# Altium schematic symbol library SINA.SchLib: 98 symbols
Pins are listed as number, name and electrical type; pins without a type are passive.

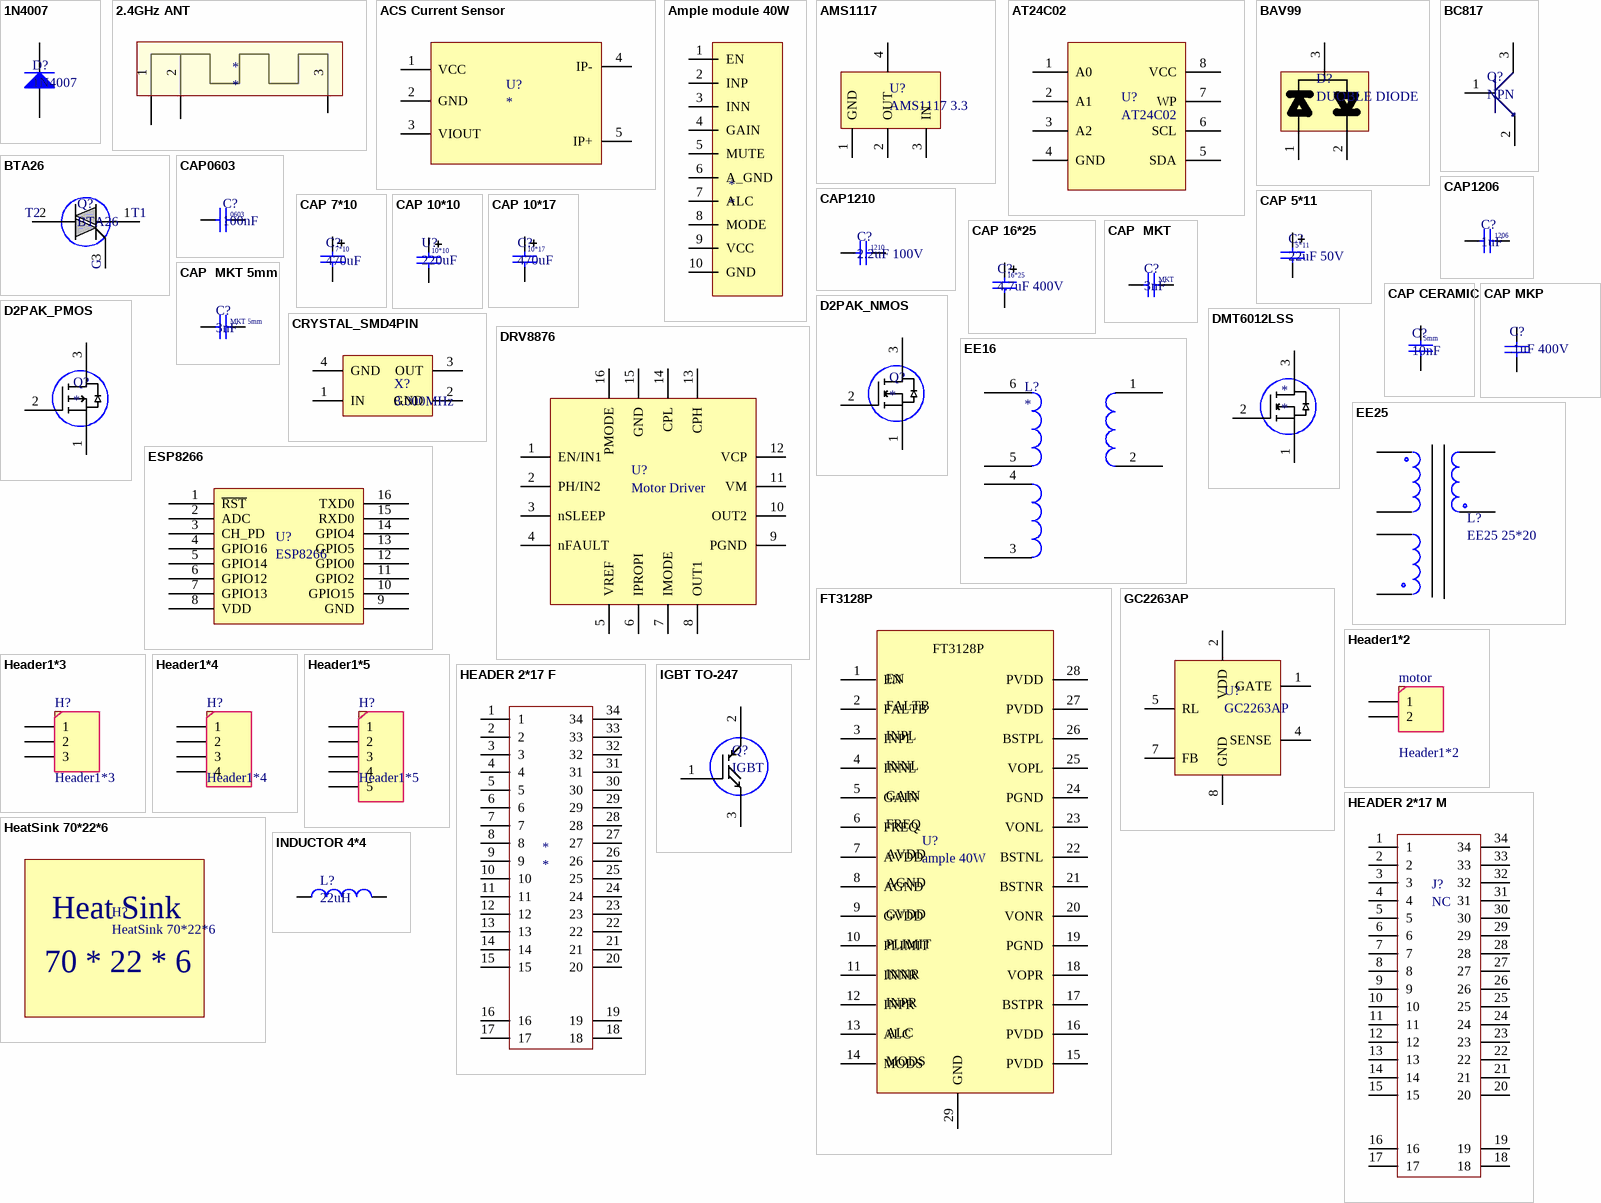
[diagram p0: symbols 1N4007 to INDUCTOR 4*4]

## 1N4007
designator D?
footprint 1N4007
pins: 1 K, 2 A

## 2.4GHz ANT
designator *
footprint 2.4GHz ANT
pins: 1 25, 2 25, 3 25

## ACS Current Sensor
designator U?
footprint ACS Current Sensor
pins: 1 VCC, 2 GND, 3 VIOUT, 4 IP-, 5 IP+

## Ample module 40W
designator *
footprint Ample module 40W
pins: 1 EN, 2 INP, 3 INN, 4 GAIN, 5 MUTE, 6 A_GND, 7 ALC, 8 MODE, 9 VCC, 10 GND

## AMS1117
designator U?, comment AMS1117 3.3
footprint AMS1117
pins: 1 GND, 2 OUT, 3 IN, 4 65

## AT24C02
designator U?
footprint AT24C02
pins: 1 A0, 2 A1, 3 A2, 4 GND, 5 SDA, 6 SCL, 7 WP, 8 VCC

## BAV99
designator D?, comment DUOBLE DIODE
footprint Model Name (Footprint not found)
footprint BAV99
pins: 1 42, 2 42, 3 42

## BC817
designator Q?, comment NPN
footprint BC817
pins: 1 B, 2 E, 3 C

## BTA26
designator Q?
footprint BTA26
pins: 1 44, 2 46, 3 45
text: T2; T1; G

## CAP0603
designator C?, comment 100nF
footprint CAP0603
pins: 1, 2
text: 0603

## CAP1206
designator C?, comment 1uF
footprint CAP1206
pins: 1, 2
text: 1206

## CAP1210
designator C?, comment 2.2uF 100V
footprint CAP 1210
pins: 1, 2
text: 1210

## CAP 5*11
designator C?, comment 22uF 50V
footprint CAP 5*11
pins: 1 2, 2 1
text: 5*11

## CAP 7*10
designator C?, comment 470uF
footprint CAP 7*10
pins: 1, 2
text: 7*10

## CAP 10*10
designator U?, comment 220uF
footprint CAP 10*10
pins: 1, 2
text: 10*10

## CAP 10*17
designator C?, comment 470uF
footprint CAP 10*17
pins: 1, 2
text: 10*17

## CAP 16*25
designator C?, comment 4.7uF 400V
footprint CAP 16*25
pins: 1 2, 2 1
text: 16*25

## CAP  MKT
designator C?, comment 3nF
footprint CAP MKT
pins: 1, 2
text: MKT

## CAP  MKT 5mm
designator C?, comment 3nF
footprint CAP MKT 5mm
pins: 1, 2
text: MKT 5mm

## CAP CERAMIC
designator C?, comment 10nF
footprint CAP CERAMIC
pins: 1, 2
text: 5mm

## CAP MKP
designator C?, comment .1uF 400V
footprint CAP MKP
pins: 1, 2

## CRYSTAL_SMD4PIN
designator X?, comment 8.000MHz
footprint CRYSTAL_SMD4PIN
pins: 1 IN, 2 GND, 3 OUT, 4 GND

## D2PAK_NMOS
designator Q?
footprint D2PAK_NMOS
pins: 1 63, 2 62, 3 D

## D2PAK_PMOS
designator Q?
footprint D2PAK_PMOS
pins: 1 63, 2 62, 3 D

## DMT6012LSS
designator *
footprint DMT6012LSS
pins: 1 63, 2 62, 3 D

## DRV8876
designator U?, comment Motor Driver
footprint Drv8876
pins: 1 EN/IN1, 2 PH/IN2, 3 nSLEEP, 4 nFAULT, 5 VREF, 6 IPROPI, 7 IMODE, 8 OUT1, 9 PGND, 10 OUT2, 11 VM, 12 VCP, 13 CPH, 14 CPL, 15 GND, 16 PMODE

## EE16
designator L?
footprint EE16
pins: 1 58, 2 58, 3 58, 4 58, 5 58, 6

## EE25
designator L?, comment EE25 25*20
footprint EE25
pins: 1, 2 1, 3 1, 4 1, 5 1, 6 1

## ESP8266
designator U?
footprint ESP8266
pins: 1 ~{RST} "Reset", 2 ADC "ADC Input Or TOUT Output", 3 CH_PD "Chip enable", 4 GPIO16 "GPIO16 or Deep-Sleep Wakeup", 5 GPIO14 "GPIO14 or SPI CLK", 6 GPIO12 "GPIO12 or SPIQ", 7 GPIO13 "GPIO13 or SPID", 8 VDD "Power supply", 9 GND "Power ground", 10 GPIO15 "GPIO15 or SPICS", 11 GPIO2, 12 GPIO0, 13 GPIO5, 14 GPIO4, 15 RXD0 "GPIO3 or UART RXD", 16 TXD0

## FT3128P
designator U?, comment ample 40W
footprint FT3128P
pins: 1 EN, 2 FALTB, 3 INPL, 4 INNL, 5 GAIN, 6 FREQ, 7 AVDD, 8 AGND, 9 GVDD, 10 PLIMIT, 11 INNR, 12 INPR, 13 ALC, 14 MODS, 15 PVDD, 16 PVDD, 17 BSTPR, 18 VOPR, 19 PGND, 20 VONR, 21 BSTNR, 22 BSTNL, 23 VONL, 24 PGND, 25 VOPL, 26 BSTPL, 27 PVDD, 28 PVDD, 29 GND

## GC2263AP
designator U?
footprint GC2263AP
pins: 1 GATE, 2 VDD, 4 SENSE, 5 RL, 7 FB, 8 GND

## Header1*2
designator motor
Header, 2-Pin
footprint HEADER1*2 (2.50mm Male Shrouded Header, 2p)
pins: 1, 2

## Header1*3
designator H?
Header, 3-Pin; LatestRevisionDate: 17-Jul-2002; LatestRevisionNote: Re-released for DXP Platform.; Publisher: Altium Limited
footprint HEADER1*3 (2.50mm Male Shrouded Header, 3p)
footprint HEADER1*3 (2.50mm Male Shrouded Header, 3p)
pins: 1, 2, 3

## Header1*4
designator H?
Header, 4-Pin
footprint HEADER1*4 (2.50mm Male Shrouded Header, 4p)
pins: 1, 2, 3, 4

## Header1*5
designator H?
Header, 5-Pin; LatestRevisionDate: 17-Jul-2002; LatestRevisionNote: Re-released for DXP Platform.; Publisher: Altium Limited
footprint HEADER1*5 (2.50mm Male Shrouded Header, 5p)
pins: 1, 2, 3, 4, 5

## HEADER 2*17 F
designator *
footprint HEADER 2*17 F
pins: 1, 2, 3, 4, 5, 6, 7, 8, 9, 10, 11, 12, 13, 14, 15, 16, 17, 18, 19, 20, 21, 22, 23, 24, 25, 26, 27, 28, 29, 30, 31, 32, 33, 34

## HEADER 2*17 M
designator J?, comment NC
footprint HEADER 2*17 M
pins: 1, 2, 3, 4, 5, 6, 7, 8, 9, 10, 11, 12, 13, 14, 15, 16, 17, 18, 19, 20, 21, 22, 23, 24, 25, 26, 27, 28, 29, 30, 31, 32, 33, 34

## HeatSink 70*22*6
designator H?
footprint HeatSink 70*22*6
text: Heat Sink; 70 * 22 * 6

## IGBT TO-247
designator Q?, comment IGBT
footprint IGBT TO-247
pins: 1 15, 2 17, 3 16

## INDUCTOR 4*4
designator L?, comment 22uH
footprint INDUCTOR 4*4
pins: 1, 2

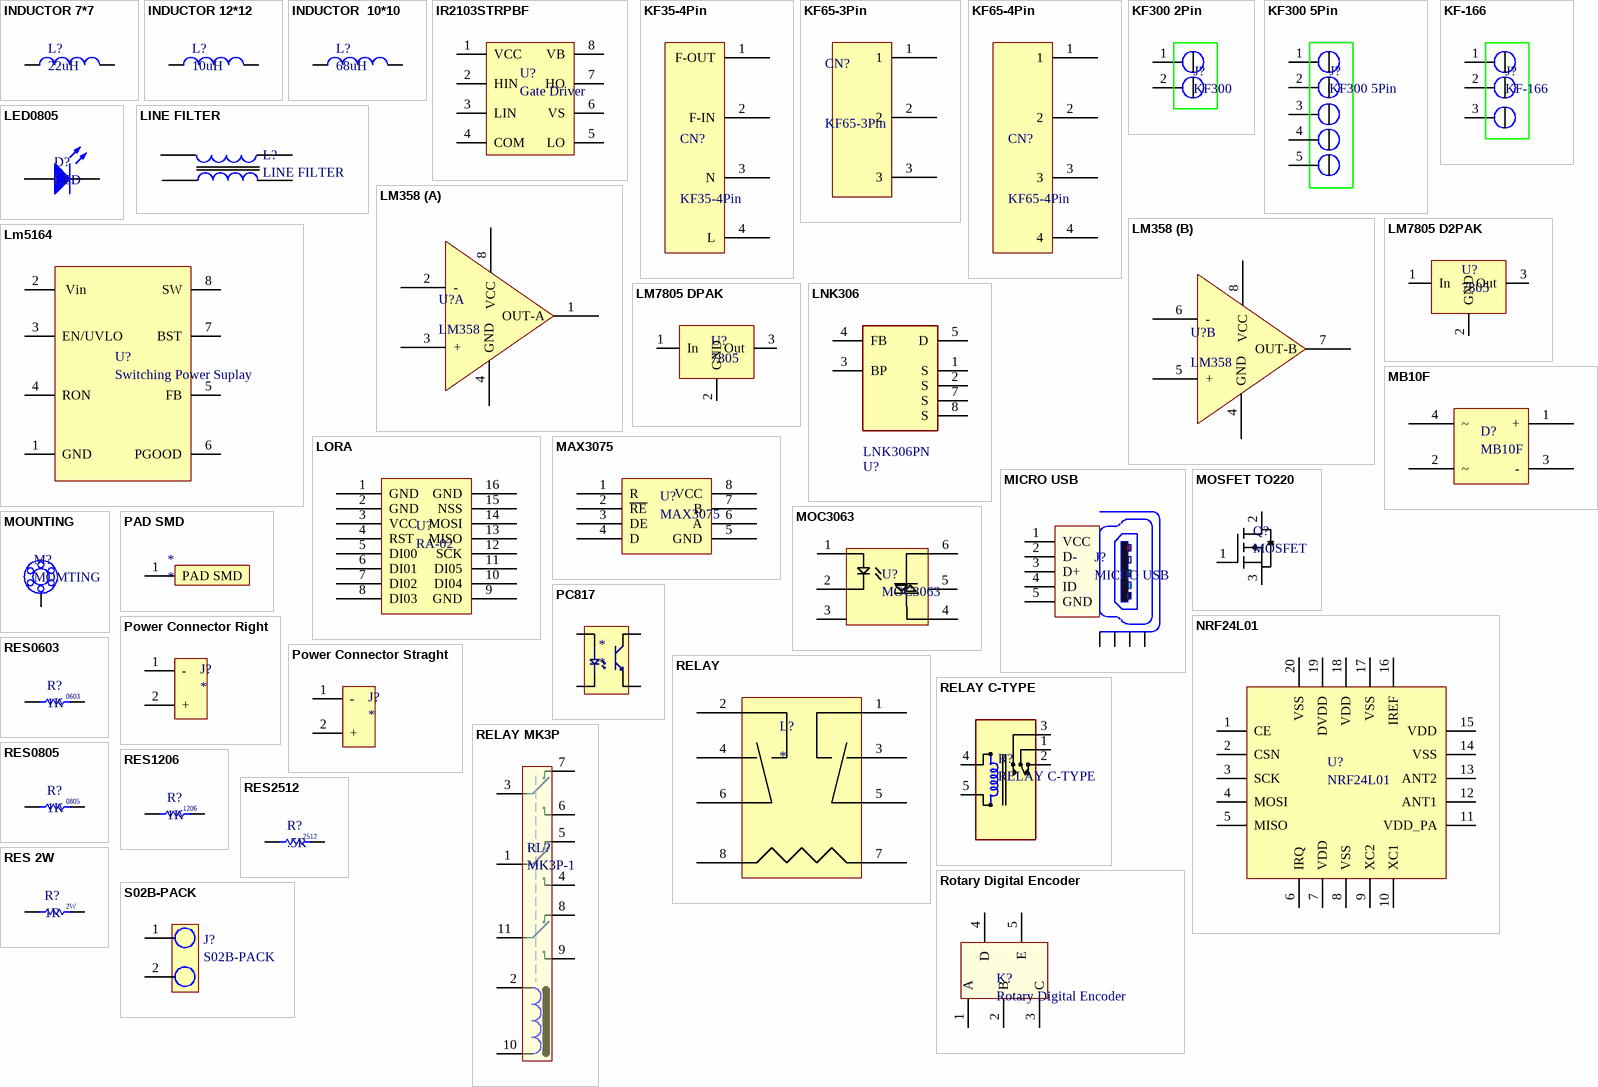
[diagram p1: symbols INDUCTOR 7*7 to S02B-PACK]

## INDUCTOR 7*7
designator L?, comment 22uH
footprint INDUCTOR 7*7
pins: 1, 2

## INDUCTOR 12*12
designator L?, comment 10uH
footprint INDUCTOR 12*12 (Precision Wire Wound Inductor, 2-Leads, Body 12.45x12.45mm, IPC Medium Density)
pins: 1, 2

## INDUCTOR  10*10
designator L?, comment 68uH
footprint INDUCTOR  10*10
pins: 1, 2

## IR2103STRPBF
designator U?, comment Gate Driver
footprint IR103STRBF
pins: 1 VCC, 2 HIN, 3 LIN, 4 COM, 5 LO, 6 VS, 7 HO, 8 VB

## KF35-4Pin
designator CN?
footprint KF35-4Pin
pins: 1 F-OUT, 2 F-IN, 3 N, 4 L

## KF65-3Pin
designator CN?
footprint KF65-3Pin
pins: 1, 2, 3

## KF65-4Pin
designator CN?
footprint KF65-4Pin
pins: 1, 2, 3, 4

## KF300 2Pin
designator J?, comment KF300
footprint KF300 2Pin
pins: 1 70, 2 71

## KF300 5Pin
designator J?
footprint KF300  5Pin
pins: 1 70, 2 71, 3 72, 4 70, 5 71

## KF-166
designator J?
footprint KF-166
pins: 1 70, 2 71, 3 72

## LED0805
designator D?, comment LED
footprint LED0805
pins: 1 A, 2 K

## LINE FILTER
designator L?
footprint LINE FILTER
pins: 1, 2 1, 3 1, 4 1

## LM358
designator U?
Single Supply Dual Operational Amplifier
footprint LM358 (SOIC, 8-Leads, Body 4.90x3.90mm, Pitch 1.27mm, IPC Medium Density)
part A pins: 1 OUT-A, 2 -, 3 +, 4 GND, 8 VCC
part B pins: 4 GND, 5 +, 6 -, 7 OUT-B, 8 VCC

## Lm5164
designator U?, comment Switching Power Suplay
footprint Lm5164
pins: 1 GND, 2  Vin, 3 EN/UVLO, 4 RON, 5 FB, 6 PGOOD, 7 BST, 8 SW

## LM7805 D2PAK
designator U?, comment 7805
footprint LM7805 D2PACK
pins: 1 In, 2 GND, 3 Out

## LM7805 DPAK
designator U?, comment 7805
footprint LM7805 DPAK
pins: 1 In, 2 GND, 3 Out

## LNK306
designator U?  Part Number: LNK306PN
IC Converter Offline Buck, Buck-Boost, Flyback Topology 66kHz DIP-8B; Manufacturer: Power Integrations; Mfg Package Ident: PI-2551-121504; helpURL: https://upverter.com/upn/revision/5da44e7bd2166d1f/; ComponentLink2Description: Datasheet; Temperature: -40°C to +150°C; Package: PI-2551-121504; Supplier 2: Mouser; Price: 0.983153531093; Supplier 1: Digi-Key; ComponentLink1URL: https://upverter.com/upn/revision/5da44e7bd2166d1f/; Supplier Part Number 2: 869-LNK306PN; Supplier Part Number 1: 596-1027-5-ND; ComponentLink1Description: Upverter; ComponentLink2URL: https://upverter.com/datasheet/bdfa534c6bc66fd3272e8d953f8f77c483cb431e.pdf; RoHS: TRUE; Mouser Part Number: 869-LNK306PN; Ipc Land Pattern Name: DIP762W46P254L957H406Q8; Temperature Range High: +150°C; Digikey Description: IC Converter Offline Buck, Buck-Boost, Flyback Topology 66kHz DIP-8B; Digikey Part Number: 596-1027-5-ND; Lead Free: yes; Temperature Range Low: -40°C; Frequency: 66kHz
footprint Power_Integrations_PI-2551-121504_0
pins: 1 S, 2 S, 3 BP, 4 FB, 5 D, 7 S, 8 S

## LORA
designator U?, comment RA-02
footprint LORA
pins: 1 GND (power), 2 GND (power), 3 VCC (power), 4 RST, 5 DI00, 6 DI01, 7 DI02, 8 DI03, 9 GND (power), 10 DI04, 11 DI05, 12 SCK, 13 MISO, 14 MOSI, 15 NSS, 16 GND (power)

## MAX3075
designator U?
footprint MAX3075
pins: 1 R, 2 ~{RE}, 3 DE, 4 D, 5 GND (power), 6 A, 7 B, 8 VCC (power)

## MB10F
designator D?
DIODES INCORPORATED
footprint MB10F
pins: 1 +, 2 ~, 3 -, 4 ~

## MICRO USB
designator J?
footprint MICRO USB
pins: 1 VCC, 2 D-, 3 D+, 4 ID, 5 GND, Z1 Shield, Z2 Shield, Z3 Shield, Z4 Shield

## MOC3063
designator U?
footprint MOC3063
pins: 1 47, 2 48, 3 47, 4 50, 5 48, 6 49

## MOSFET TO220
designator Q?, comment MOSFET
footprint MOSFET TO220
pins: 1 G, 2 D, 3 S

## MOUNTING
designator M?, comment MOMTING
footprint MOUNTING
pins: 1, 2, 3, 4, 5, 6, 7

## NRF24L01
designator U?
footprint NRF24L01
pins: 1 CE, 2 CSN, 3 SCK, 4 MOSI, 5 MISO, 6 IRQ, 7 VDD, 8 VSS, 9 XC2, 10 XC1, 11 VDD_PA, 12 ANT1, 13 ANT2, 14 VSS, 15 VDD, 16 IREF, 17 VSS, 18 VDD, 19 DVDD, 20 VSS

## PAD SMD
designator *
footprint PAD SMD
pins: 1 PAD SMD

## PC817
designator *
footprint PC817
pins: 1, 2, 3, 4

## Power Connector Right
designator J?
footprint Power Connector Right
pins: 1 -, 2 +

## Power Connector Straght
designator J?
footprint Power Connector Straght
pins: 1 -, 2 +

## RELAY
designator L?
footprint relay
pins: 1 24, 2 19, 3 25, 4 20, 5 26, 6 21, 7 23, 8 22

## RELAY C-TYPE
designator R?
footprint RELAY C-TYPE
pins: 1 COM, 2 NC, 3 NO, 4 T1, 5 T2

## RELAY MK3P
designator RL?, comment MK3P-1
footprint RELAY MK3P
pins: 1 7, 2 7, 3, 4 9, 5 8, 6 9, 7 8, 8, 9, 10 7, 11 7

## RES0603
designator R?, comment 1K
footprint RES0603
pins: 1, 2
text: 0603

## RES0805
designator R?, comment 1K
footprint RES0805
pins: 1, 2
text: 0805

## RES1206
designator R?, comment 1K
footprint RES1206
pins: 1, 2
text: 1206

## RES2512
designator R?, comment .5R
footprint RES2512
pins: 1, 2
text: 2512

## RES 2W
designator R?, comment 1R
footprint RES 2W
pins: 1, 2
text: 2W

## Rotary Digital Encoder
designator K?
footprint Rotary Digital Encoder
pins: 1 A, 2 B, 3 C, 4 D, 5 E

## S02B-PACK
designator J?
footprint S02B-PACK
pins: 1 68, 2 69

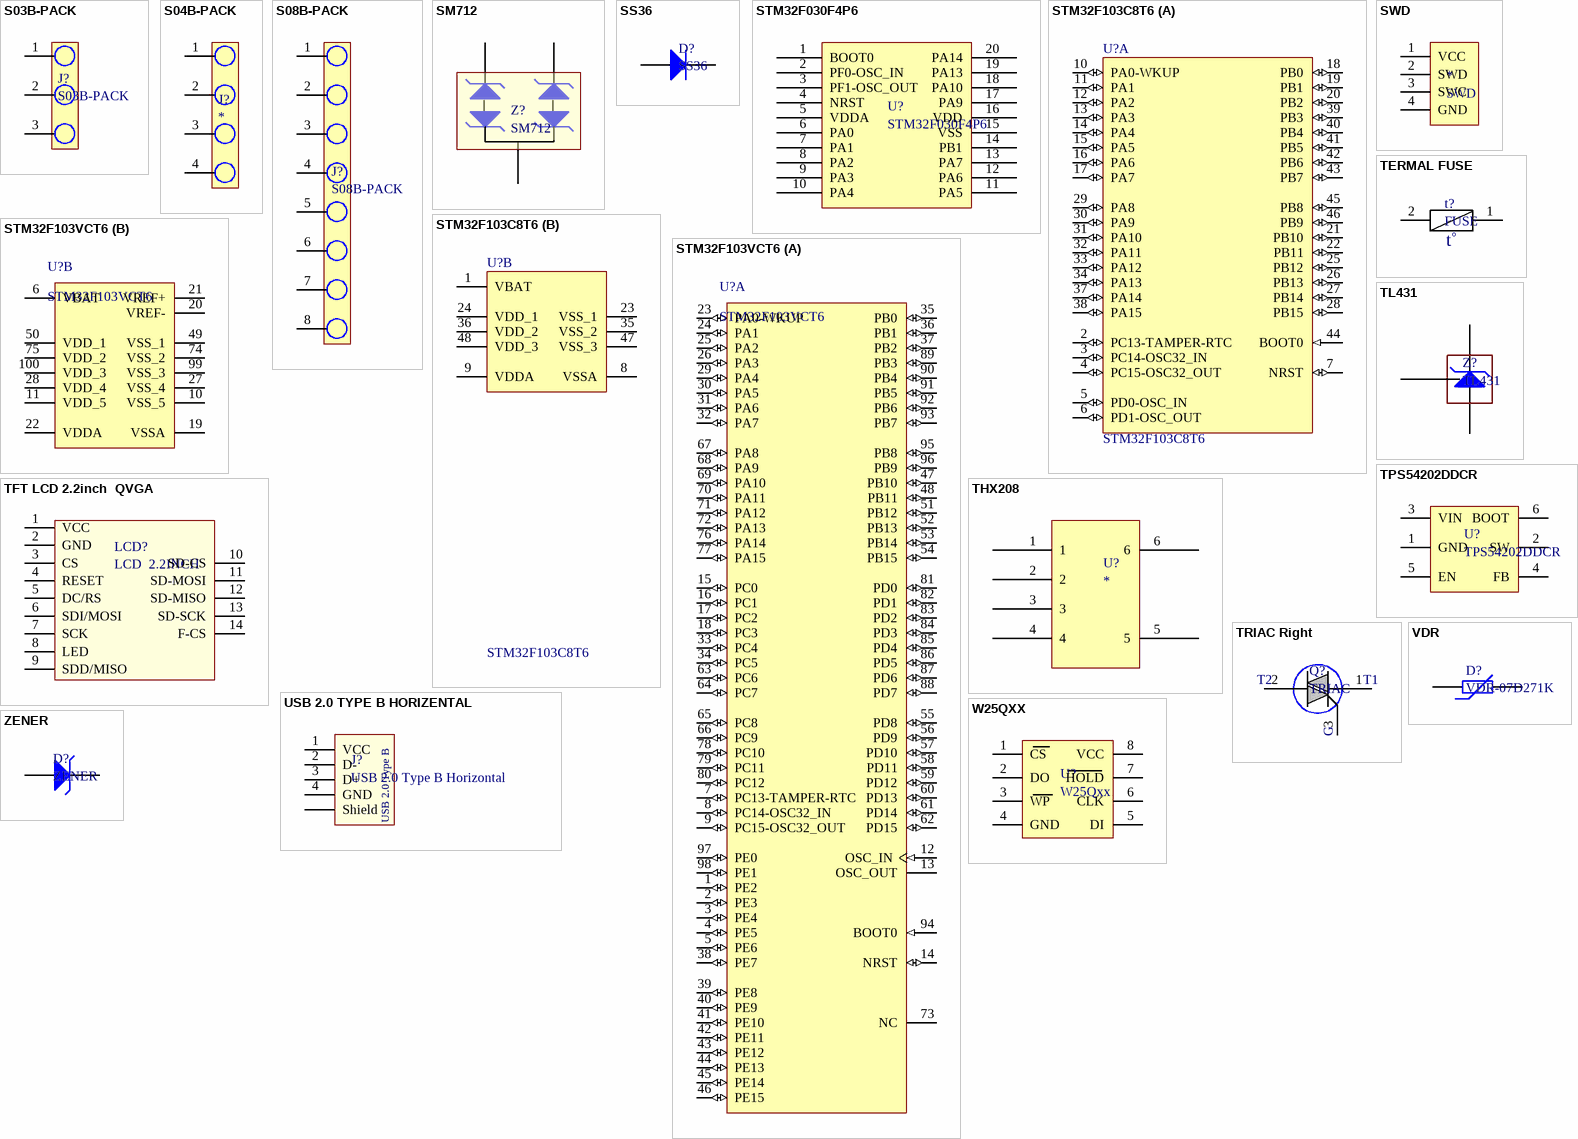
[diagram p2: symbols S03B-PACK to ZENER]

## S03B-PACK
designator J?
footprint S03B-PACK
pins: 1 68, 2 69, 3 69

## S04B-PACK
designator J?
footprint S04B-PACK
pins: 1 68, 2 69, 3 69, 4 69

## S08B-PACK
designator J?
footprint S08B-PACK
pins: 1 68, 2 69, 3 69, 4 69, 5 69, 6 69, 7 69, 8 69

## SM712
designator Z?
footprint BC817
pins: 1 K, 2 K, 3 K

## SS36
designator D?
footprint SS36
pins: 1 A, 2 K

## STM32F030F4P6
designator U?
footprint STM32F030F4P6
pins: 1 BOOT0, 2 PF0-OSC_IN, 3 PF1-OSC_OUT, 4 NRST, 5 VDDA, 6 PA0, 7 PA1, 8 PA2, 9 PA3, 10 PA4, 11 PA5, 12 PA6, 13 PA7, 14 PB1, 15 VSS, 16 VDD, 17 PA9, 18 PA10, 19 PA13, 20 PA14

## STM32F103C8T6
designator U?
ARM Cortex-M3 32-bit MCU, 64 KB Flash, 20 KB Internal RAM, 37 I/Os, 48-pin LQFP, -40 to 85 degC, Tray; A/D Converter: 2x12-bit (10 Channel); FLASH Size (Prog) (kB): 64; I/Os (High Current): 37; Internal RAM Size (kB): 20; Operating Frequency(F) (Processor speed) (MHz): 72; Supply Voltage(Vcc) min (V): 2; DatasheetVersion: Rev. 16; PackageVersion: Rev. 6, 06/2013; PackageReference: LQFP48; PackageDescription: 48-Pin Low Profile Quad Flat Package, 7 x 7 mm Body, 0.5 mm Pitch; Supplier 1: Digi-Key; Supplier Part Number 1: 497-6063-ND; Supplier 2: Farnell; Supplier Part Number 2: 1447637; Supplier 3: Newark; Supplier Part Number 3: 59M2182; Supplier 4: Newark; Supplier Part Number 4: 57P1222; Supplier 5: Mouser; Supplier Part Number 5: 511-STM32F103C8T6; Core: ARM Cortex-M3; Packing: Tray; Mounting Technology: Surface Mount; PartNumber: STM32F103C8T6; ComponentLink1Description: Manufacturer URL; ComponentLink1URL: http://www.st.com/web/en/home.html; ComponentLink2Description: Datasheet; ComponentLink2URL: http://www.st.com/st-web-ui/static/active/en/resource/technical/document/datasheet/CD00161566.pdf; ComponentLink3Description: Package Specification; ComponentLink3URL: http://www.st.com/st-web-ui/static/active/en/resource/technical/document/datasheet/DM00058181.pdf
footprint STM32F103C8T6 (Thin QFP, 48-Leads, Body 7x7mm, Pitch 0.5mm, IPC Low Density)
part A pins: 2 PC13-TAMPER-RTC (io) "PC13-TAMPER-RTC/PC13/TAMPER-RTC", 3 PC14-OSC32_IN (io) "PC14-OSC32_IN/PC14/OSC32_IN", 4 PC15-OSC32_OUT (io) "PC15-OSC32_OUT/PC15/OSC32_OUT", 5 PD0-OSC_IN (io) "PD0/OSC_IN", 6 PD1-OSC_OUT (io) "PD1/OSC_OUT", 7 NRST (io), 10 PA0-WKUP (io) "PA0-WKUP/PA0/WKUP/USART2_CTS/ADC12_IN0/TIM2_CH1_ETR", 11 PA1 (io) "PA1/USART2_RTS/ADC12_IN1/TIM2_CH2", 12 PA2 (io) "PA2/USART2_TX/ADC12_IN2/TIM2_CH3", 13 PA3 (io) "PA3/USART2_RX/ADC12_IN3/TIM2_CH4", 14 PA4 (io) "PA4/SPI1_NSS/USART2_CK/ADC12_IN4", 15 PA5 (io) "PA5/SPI1_SCK/ADC12_IN5", 16 PA6 (io) "PA6/SPI1_MISO/ADC12_IN6/TIM3_CH1/TIM1_BKIN", 17 PA7 (io) "PA7/SPI1_MOSI/ADC12_IN7/TIM3_CH2/TIM1_CH1N", 18 PB0 (io) "PB0/ADC12_IN8/TIM3_CH3/TIM1_CH2N", 19 PB1 (io) "PB1/ADC12_IN9/TIM3_CH4/TIM1_CH3N", 20 PB2 (io) "PB2/BOOT1", 21 PB10 (io) "PB10/I2C2_SCL/USART3_TX/TIM2_CH3", 22 PB11 (io) "PB11/I2C2_SDA/USART3_RX/TIM2_CH4", 25 PB12 (io) "PB12/SPI2_NSS/I2C2_SMBAl/USART3_CK/TIM1_BKIN", 26 PB13 (io) "PB13/SPI2_SCK/USART3_CTS/TIM1_CH1N", 27 PB14 (io) "PB14/SPI2_MISO/USART3_RTS/TIM1_CH2N", 28 PB15 (io) "PB15/SPI2_MOSI/TIM1_CH3N", 29 PA8 (io) "PA8/USART1_CK/TIM1_CH1/MCO", 30 PA9 (io) "PA9/USART1_TX/TIM1_CH2", 31 PA10 (io) "PA10/USART1_RX/TIM1_CH3", 32 PA11 (io) "PA11/USART1_CTS/CANRX/USBDM/TIM1_CH4", 33 PA12 (io) "PA12/USART1_RTS/CANTX/USBDP/TIM1_ETR", 34 PA13 (io) "PA13/JTMS/SWDIO", 37 PA14 (io) "PA14/JTCK/SWCLK", 38 PA15 (io) "PA15/JTDI/TIM2_CH1_ETR/SPI1_NSS", 39 PB3 (io) "PB3/JTDO/TIM2_CH2/TRACESWO/SPI1_SCK", 40 PB4 (io) "PB4/NJTRST/TIM3_CH1/SPI1_MISO", 41 PB5 (io) "PB5/I2C1_SMBAI/TIM3_CH2/SPI1_MOSI", 42 PB6 (io) "PB6/I2C1_SCL/TIM4_CH1/USART1_TX", 43 PB7 (io) "PB7/I2C1_SDA/TIM4_CH2/USART1_RX", 44 BOOT0 (in), 45 PB8 (io) "PB8/TIM4_CH3/I2C1_SCL/CANRX", 46 PB9 (io) "PB9/TIM4_CH4/I2C1_SDA/CANTX"
part B pins: 1 VBAT (power), 8 VSSA (power), 9 VDDA (power), 23 VSS_1 (power), 24 VDD_1 (power), 35 VSS_2 (power), 36 VDD_2 (power), 47 VSS_3 (power), 48 VDD_3 (power)

## STM32F103VCT6
designator U?
ARM Cortex-M3 32-bit MCU, 256 KB Flash, 48 KB Internal RAM, 80 I/Os, 100-pin LQFP, -40 to 85 degC, Tray; Operating Frequency(F) (Processor speed) (MHz): 72; Supply Voltage(Vcc) min (V): 2; FLASH Size (Prog) (kB): 256; I/Os (High Current): 80; D/A Converter: 2x12-bit (2 Channel); Internal RAM Size (kB): 48; A/D Converter: 3x12-bit (16 Channel); Core: ARM Cortex-M3; ComponentLink2Description: Datasheet; ComponentLink3Description: Package Specification; PackageDescription: 100-Pin Low Profile Quad Flat Package, 14 x 14 mm Body, 0.5 mm Pitch; ComponentLink3URL: http://www.st.com/st-web-ui/static/active/en/resource/technical/document/data_brief/DM00071938.pdf; DatasheetVersion: Rev. 8; ComponentLink1URL: http://www.st.com/web/en/home.html; ComponentLink1Description: Manufacturer URL; PartNumber: STM32F103VCT6; ComponentLink2URL: http://www.st.com/st-web-ui/static/active/en/resource/technical/document/datasheet/CD00191185.pdf; Packing: Tray; Mounting Technology: Surface Mount; PackageReference: LQFP100; PackageVersion: Rev. 1, 06/2013
footprint STM-LQFP100 (Thin QFP, 100-Leads, Body 14x14mm, Pitch 0.5mm, IPC High Density)
part A pins: 1 PE2 (io) "PE2/TRACECK/FSMC_A23", 2 PE3 (io) "PE3/TRACED0/FSMC_A19", 3 PE4 (io) "PE4/TRACED1/FSMC_A20", 4 PE5 (io) "PE5/TRACED2/FSMC_A21", 5 PE6 (io) "PE6/TRACED3/FSMC_A22", 7 PC13-TAMPER-RTC (io) "PC13-TAMPER-RTC/PC13/TAMPER-RTC", 8 PC14-OSC32_IN (io) "PC14-OSC32_IN/PC14/OSC32_IN", 9 PC15-OSC32_OUT (io) "PC15-OSC32_OUT/PC15/OSC32_OUT", 12 OSC_IN (in), 13 OSC_OUT, 14 NRST (io), 15 PC0 (io) "PC0/ADC123_IN10", 16 PC1 (io) "PC1/ADC123_IN11", 17 PC2 (io) "PC2/ADC123_IN12", 18 PC3 (io) "PC3/ADC123_IN13", 23 PA0-WKUP (io) "PA0-WKUP/PA0/WKUP/USART2_CTS/ADC123_IN0/TIM2_CH1_ETR/TIM5_CH1/TIM8_ETR", 24 PA1 (io) "PA1/USART2_RTS/ADC123_IN1/TIM5_CH2/TIM2_CH2", 25 PA2 (io) "PA2/USART2_TX/TIM5_CH3/ADC123_IN2/TIM2_CH3", 26 PA3 (io) "PA3/USART2_RX/TIM5_CH4/ADC123_IN3/TIM2_CH4", 29 PA4 (io) "PA4/SPI1_NSS/USART2_CK/DAC_OUT1/ADC12_IN4", 30 PA5 (io) "PA5/SPI1_SCK/DAC_OUT2/ADC12_IN5", 31 PA6 (io) "PA6/SPI1_MISO/TIM8_BKIN/ADC12_IN6/TIM3_CH1/TIM1_BKIN", 32 PA7 (io) "PA7/SPI1_MOSI/TIM8_CH1N/ADC12_IN7/TIM3_CH2/TIM1_CH1N", 33 PC4 (io) "PC4/ADC12_IN14", 34 PC5 (io) "PC5/ADC12_IN15", 35 PB0 (io) "PB0/ADC12_IN8/TIM3_CH3/TIM8_CH2N/TIM1_CH2N", 36 PB1 (io) "PB1/ADC12_IN9/TIM3_CH4/TIM8_CH3N/TIM1_CH3N", 37 PB2 (io) "PB2/BOOT1", 38 PE7 (io) "PE7/FSMC_D4/TIM1_ETR", 39 PE8 (io) "PE8/FSMC_D5/TIM1_CH1N", 40 PE9 (io) "PE9/FSMC_D6/TIM1_CH1", 41 PE10 (io) "PE10/FSMC_D7/TIM1_CH2N", 42 PE11 (io) "PE11/FSMC_D8/TIM1_CH2", 43 PE12 (io) "PE12/FSMC_D9/TIM1_CH3N", 44 PE13 (io) "PE13/FSMC_D10/TIM1_CH3", 45 PE14 (io) "PE14/FSMC_D11/TIM1_CH4", 46 PE15 (io) "PE15/FSMC_D12/TIM1_BKIN", 47 PB10 (io) "PB10/I2C2_SCL/USART3_TX/TIM2_CH3", 48 PB11 (io) "PB11/I2C2_SDA/USART3_RX/TIM2_CH4", 51 PB12 (io) "PB12/SPI2_NSS/I2S2_WS/I2C2_SMBA/USART3_CK/TIM1_BKIN", 52 PB13 (io) "PB13/SPI2_SCK/I2S2_CK/USART3_CTS/TIM1_CH1N", 53 PB14 (io) "PB14/SPI2_MISO/TIM1_CH2N/USART3_RTS", 54 PB15 (io) "PB15/SPI2_MOSI/I2S2_SD/TIM1_CH3N", 55 PD8 (io) "PD8/FSMC_D13/USART3_TX", 56 PD9 (io) "PD9/FSMC_D14/USART3_RX", 57 PD10 (io) "PD10/FSMC_D15/USART3_CK", 58 PD11 (io) "PD11/FSMC_A16/USART3_CTS", 59 PD12 (io) "PD12/FSMC_A17/TIM4_CH1/USART3_RTS", 60 PD13 (io) "PD13/FSMC_A18/TIM4_CH2", 61 PD14 (io) "PD14/FSMC_D0/TIM4_CH3", 62 PD15 (io) "PD15/FSMC_D1/TIM4_CH4", 63 PC6 (io) "PC6/I2S2_MCK/TIM8_CH1/SDIO_D6/TIM3_CH1", 64 PC7 (io) "PC7/I2S3_MCK/TIM8_CH2/SDIO_D7/TIM3_CH2", 65 PC8 (io) "PC8/TIM8_CH3/SDIO_D0/TIM3_CH3", 66 PC9 (io) "PC9/TIM8_CH4/SDIO_D1/TIM3_CH4", 67 PA8 (io) "PA8/USART1_CK/TIM1_CH1/MCO", 68 PA9 (io) "PA9/USART1_TX/TIM1_CH2", 69 PA10 (io) "PA10/USART1_RX/TIM1_CH3", 70 PA11 (io) "PA11/USART1_CTS/USBDM/CAN_RX/TIM1_CH4", 71 PA12 (io) "PA12/USART1_RTS/USBDP/CAN_TX/TIM1_ETR", 72 PA13 (io) "PA13/JTMS-SWDIO", 73 NC, 76 PA14 (io) "PA14/JTCK-SWCLK", 77 PA15 (io) "PA15/JTDI/SPI3_NSS/I2S3_WS/TIM2_CH1_ETR/SPI1_NSS", 78 PC10 (io) "PC10/UART4_TX/SDIO_D2/USART3_TX", 79 PC11 (io) "PC11/UART4_RX/SDIO_D3/USART3_RX", 80 PC12 (io) "PC12/UART5_TX/SDIO_CK/USART3_CK", 81 PD0 (io) "PD0/OSC_IN/FSMC_D2/CAN_RX", 82 PD1 (io) "PD1/OSC_OUT/FSMC_D3/CAN_TX", 83 PD2 (io) "PD2/TIM3_ETR/UART5_RX/SDIO_CMD", 84 PD3 (io) "PD3/FSMC_CLK/USART2_CTS", 85 PD4 (io) "PD4/FSMC_NOE/USART2_RTS", 86 PD5 (io) "PD5/FSMC_NWE/USART2_TX", 87 PD6 (io) "PD6/FSMC_NWAIT/USART2_RX", 88 PD7 (io) "PD7/FSMC_NE1/FSMC_NCE2/USART2_CK", 89 PB3 (io) "PB3/JTDO/SPI3_SCK/I2S3_CK/TRACESWO/TIM2_CH2/SPI1_SCK", 90 PB4 (io) "PB4/NJTRST/SPI3_MISO/TIM3_CH1/SPI1_MISO", 91 PB5 (io) "PB5/I2C1_SMBA/SPI3_MOSI/I2S3_SD/TIM3_CH2/SPI1_MOSI", 92 PB6 (io) "PB6/I2C1_SCL/TIM4_CH1/USART1_TX", 93 PB7 (io) "PB7/I2C1_SDA/FSMC_NADV/TIM4_CH2/USART1_RX", 94 BOOT0 (in), 95 PB8 (io) "PB8/TIM4_CH3/SDIO_D4/I2C1_SCL/CAN_RX", 96 PB9 (io) "PB9/TIM4_CH4/SDIO_D5/I2C1_SDA/CAN_TX", 97 PE0 (io) "PE0/TIM4_ETR/FSMC_NBL0", 98 PE1 (io) "PE1/FSMC_NBL1"
part B pins: 6 VBAT (power), 10 VSS_5 (power), 11 VDD_5 (power), 19 VSSA (power), 20 VREF- (power), 21 VREF+ (power), 22 VDDA (power), 27 VSS_4 (power), 28 VDD_4 (power), 49 VSS_1 (power), 50 VDD_1 (power), 74 VSS_2 (power), 75 VDD_2 (power), 99 VSS_3 (power), 100 VDD_3 (power)

## SWD
designator *
footprint SWD
pins: 1 VCC, 2 SWD, 3 SWC, 4 GND

## TERMAL FUSE
designator t?, comment FUSE
footprint TERMAL FUSE
pins: 1 67, 2 66
text: o; t

## TFT LCD 2.2inch  QVGA
designator LCD?, comment LCD  2.2INCH
footprint TFT LCD 2.2inch  QVGA
pins: 1 VCC, 2 GND, 3 CS, 4 RESET, 5 DC/RS, 6 SDI/MOSI, 7 SCK, 8 LED, 9 SDD/MISO, 10 SD-CS, 11 SD-MOSI, 12 SD-MISO, 13 SD-SCK, 14 F-CS

## THX208
designator U?
footprint THX208
pins: 1, 2, 3, 4, 5, 6

## TL431
designator Z?
footprint TL431
pins: 1 K, 2 3, 3 A

## TPS54202DDCR
designator U?
footprint TPS54202DDCR
pins: 1 GND, 2 SW, 3 VIN, 4 FB, 5 EN, 6 BOOT

## TRIAC Right
designator Q?, comment TRIAC
footprint TRIAC Right
pins: 1 44, 2 46, 3 45
text: T2; T1; G

## USB 2.0 TYPE B HORIZENTAL
designator J?, comment USB 2.0 Type B Horizontal
footprint USB 2.0 TYPE B HORIZENTAL
pins: 1 VCC, 2 D-, 3 D+, 4 GND, Shell Shield
text: USB 2.0 Type B

## VDR
designator D?, comment VDR-07D271K
footprint VDR
pins: 1, 2

## W25QXX
designator U?, comment W25Qxx
footprint W25QXX
pins: 1 CS, 2 DO, 3 WP, 4 GND, 5 DI, 6 CLK, 7 HOLD, 8 VCC

## ZENER
designator D?
footprint ZENER
pins: 1 A, 2 K